# Altium footprint library BEE-DAL_EXP_pcb.PcbLib: 50 footprints (part 3 of 4)
Each footprint in its own frame and in the unit in brackets; x right, y up, seen from the top. Pads: shape width x height; smd on the part's side, far side on the other; paste and mask are expansions set on the pad; w line width, h text height; cw(c..) or ccw(c..) is an arc to the next point about the centre after c.
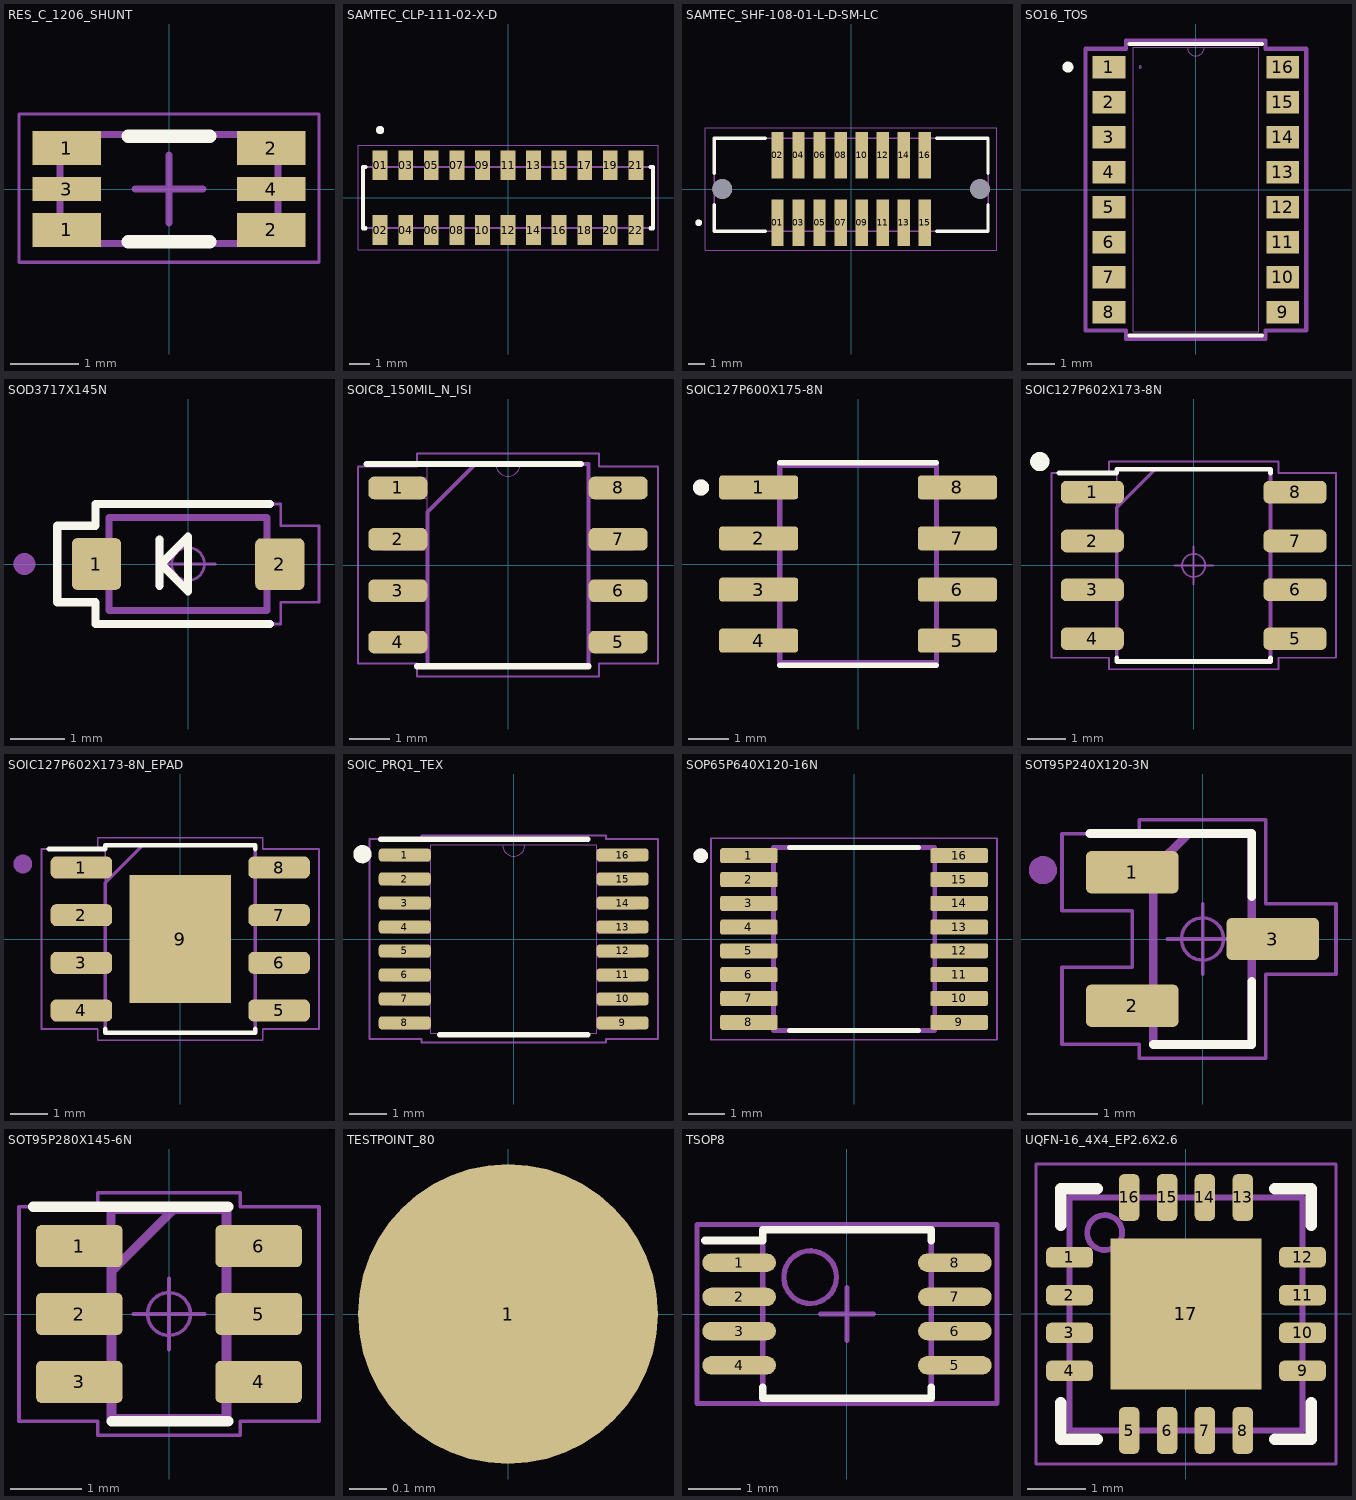
[diagram p2: the footprints below, top view; thin cyan lines are the x and y axes]

## RES_C_1206_SHUNT [mm]
pads (6):
  rect 1x0.5 smd mask+0.1: 1(-1.5,-0.6) 1(-1.5,0.6) 2(1.5,-0.6) 2(1.5,0.6)
  rect 1x0.35 smd mask+0.1: 3(-1.5,0) 4(1.5,0)
Top Overlay:
  lines w0.2: -0.6,-0.775 0.6,-0.775 ; -0.6,0.775 0.6,0.775
Top Assembly:
  lines w0.1: -1.6,-0.8 1.6,-0.8 1.6,0.8 -1.6,0.8 -1.6,-0.8
  text ".Designator" at -0.975,-0.375 h0.75
Top Courtyard:
  lines w0.05: -2.2,-1.075 -2.2,1.1 2.2,1.1 2.2,-1.075 -2.2,-1.075
  lines w0.1: -0.5,0 0.5,0 ; 0,-0.5 0,0.5
Top 3D Body:
  lines w0.1: -1.6,-0.8 -1.6,0.8 1.6,0.8 1.6,-0.8 -1.6,-0.8
3D body "RES_1206.step": height 1, standoff 0, extent -1.6,-0.8 1.6,0.8

## SAMTEC_CLP-111-02-X-D [mil]
pads (22):
  rect 29x58 smd: 01(-250,63.5) 02(-250,-63.5) 03(-200,63.5) 04(-200,-63.5) 05(-150,63.5) 06(-150,-63.5) 07(-100,63.5) 08(-100,-63.5) 09(-50,63.5) 10(-50,-63.5) 11(0,63.5) 12(0,-63.5) 13(50,63.5) 14(50,-63.5) 15(100,63.5) 16(100,-63.5) 17(150,63.5) 18(150,-63.5) 19(200,63.5) 20(200,-63.5) 21(250,63.5) 22(250,-63.5)
Top Overlay:
  circle w7.87: c-250,131.89 r3.94
  lines w7.87: -278.35,-60 -283.5,-60 -283.5,60 -278.35,60 ; 278.38,-60 283.5,-60 283.5,60 278.38,60
Mechanical 13:
  circle w7.87: c-250,131.89 r3.94
  lines w3.94: -283.5,-60 283.5,-60 283.5,60 -283.5,60 -283.5,-60
Mechanical 15:
  lines w1.97: -293.34,-102.36 293.34,-102.36 293.34,102.36 -293.34,102.36 -293.34,-102.36
3D body "CLP-111-02-G-D.stp": height 89, standoff -1, extent -283.5,-85 283.5,85

## SAMTEC_SHF-108-01-L-D-SM-LC [mm]
pads (18):
  rect 0.74x2.795 smd: 01(-4.445,-2.033) 02(-4.445,2.033) 03(-3.175,-2.033) 04(-3.175,2.033) 05(-1.905,-2.033) 06(-1.905,2.033) 07(-0.635,-2.033) 08(-0.635,2.033) 09(0.635,-2.033) 10(0.635,2.033) 11(1.905,-2.033) 12(1.905,2.033) 13(3.175,-2.033) 14(3.175,2.033) 15(4.445,-2.033) 16(4.445,2.033)
  round 1.19 hole 1.19 unplated: ""(-7.772,0) ""(7.772,0)
Top Overlay:
  circle w0.2: c-9.192,-2.033 r0.1
  lines w0.2: -8.255,-0.947 -8.255,-2.54 -5.165,-2.54 ; -8.255,0.947 -8.255,3.05 -5.165,3.05 ; 5.165,-2.54 8.255,-2.54 8.255,-0.947 ; 5.165,3.05 8.255,3.05 8.255,0.947
Mechanical 13:
  circle w0.2: c-9.192,-2.033 r0.1
  lines w0.1: -8.255,-2.54 -8.255,3.05 ; -8.255,-2.54 8.255,-2.54 ; -8.255,-2.54 -8.255,3.05 ; -8.255,3.05 8.255,3.05 ; -8.255,3.05 8.255,3.05 ; 8.255,-2.54 8.255,3.05 ; 8.255,-2.54 8.255,3.05
Mechanical 15:
  lines w0.05: -8.792,-3.68 8.792,-3.68 8.792,3.68 -8.792,3.68 -8.792,-3.68
3D body "SHF-108-01-L-D-SM-LC.stp": height 5.44, standoff -1.3, extent -8.255,-3.048 8.255,3.048

## SO16_TOS [mil]
pads (16):
  rect 47x32 smd paste+0 mask+0: 1(-124.02,175) 2(-124.02,125) 3(-124.02,75) 4(-124.02,25) 5(-124.02,-25) 6(-124.02,-75) 7(-124.02,-125) 8(-124.02,-175) 9(124.02,-175) 10(124.02,-125) 11(124.02,-75) 12(124.02,-25) 13(124.02,25) 14(124.02,75) 15(124.02,125) 16(124.02,175)
Top Overlay:
  circle w9.84: c-182.52,175 r3
  lines w6: -94.5,-208 94.5,-208 ; -94.5,208 94.5,208
Mechanical 13:
  circle w1: c-79.5,175 r1.5
  lines w1: -12,203 ccw(c0,203) 12,203 ; -89.5,-203 89.5,-203 89.5,203 -89.5,203 -89.5,-203
Mechanical 15:
  lines w6: -157.52,-201 -99.5,-201 -99.5,-213 99.5,-213 99.5,-201 157.52,-201 157.52,201 99.5,201 99.5,213 -99.5,213 -99.5,201 -157.52,201 -157.52,-201
3D body "TLP291-4_GB-TP,E_.stp": height 90.55, standoff 0, extent -137.8,-202.76 137.8,202.76

## SOD3717X145N [mm]
pads (2):
  rrect22% 0.9x0.95 smd: 1(-1.68,0) 2(1.681,-0.003)
Top Overlay:
  lines w0.15: -0.525,-0.4 -0.525,0.45 ; 1.5,-1.1 -1.7,-1.1 -1.7,-0.7 -2.4,-0.7 -2.4,0.7 -1.7,0.7 -1.7,1.1 1.5,1.1 ; -0.5,0 0,-0.5 0,0.375 0,0.5 -0.5,0
Top Assembly:
  lines w0.127: -1.45,-0.85 -1.45,0.85 1.45,0.85 1.45,-0.85 -1.45,-0.85
  lines w0.15: -0.525,-0.4 -0.525,0.45 ; -0.5,0 0,-0.5 0,0.375 0,0.5 -0.5,0
  text "'.Designator'" at -3.952,-0.622 h1.5
Top Courtyard:
  lines w0.05: -2.4,-0.7 -2.4,0.7 -1.7,0.7 -1.7,1.1 1.5,1.1 1.7,1.1 1.7,0.7 2.4,0.7 2.4,-0.7 1.7,-0.7 1.7,-1.1 -1.7,-1.1 -1.7,-0.7 -2.4,-0.7
Top Component Outline:
  region: -1.525,0.3 -1.925,0.3 -1.925,-0.3 -1.525,-0.3
  rectangle: 1.525,-0.3 1.925,0.3
  lines w0.05: -1.45,-0.85 -1.45,0.85 1.45,0.85 1.45,-0.85 -1.45,-0.85
Top Component Center:
  circle w0.05: c0,0 r0.3
  lines w0.05: -0.5,0 0.5,0 ; 0,-0.5 0,0.5
Mechanical 13:
  circle w0.2: c-3,0 r0.1
3D body "step_temp.STEP": height 1.5, standoff -0.03, extent -1.825,-0.775 1.825,0.775

## SOIC8_150MIL_N_ISI [mil]
pads (8):
  rrect50% 57.5x22 smd paste+0: 1(-107.25,75) 2(-107.25,25) 3(-107.25,-25) 4(-107.25,-75) 5(107.25,-75) 6(107.25,-25) 7(107.25,25) 8(107.25,75)
Top Overlay:
  lines w6: -137.8,98.43 70.87,98.43 ; -88.5,-98.5 78.5,-98.5
Top Assembly:
  lines w3.94: -78.5,-98.5 -78.5,51.42 -31.42,98.5 78.5,98.5 78.5,-98.5 -78.5,-98.5
Top Courtyard:
  lines w1.97: -146,-96 -146,96 -88.5,96 -88.5,108.5 88.5,108.5 88.5,96 146,96 146,-96 88.5,-96 88.5,-108.5 -88.5,-108.5 -88.5,-96 -146,-96
Top Component Outline:
  lines w0: -12,98.5 ccw(c0,98.5) 12,98.5
  lines w1: -122,-85 -78.5,-85 -78.5,-65 -122,-65 -122,-85 ; -122,-35 -78.5,-35 -78.5,-15 -122,-15 -122,-35 ; -122,15 -78.5,15 -78.5,35 -122,35 -122,15 ; -122,65 -78.5,65 -78.5,85 -122,85 -122,65 ; -78.5,-98.5 78.5,-98.5 78.5,98.5 -78.5,98.5 -78.5,-98.5 ; 78.5,-85 122,-85 122,-65 78.5,-65 78.5,-85 ; 78.5,-35 122,-35 122,-15 78.5,-15 78.5,-35 ; 78.5,15 122,15 122,35 78.5,35 78.5,15 ; 78.5,65 122,65 122,85 78.5,85 78.5,65
3D body "SOIC8_150MIL_N_ISI.step": height 69.09, standoff 0, extent -122.01,-98.5 122.01,98.5

## SOIC127P600X175-8N [mm]
pads (8):
  rrect25% 1.97x0.59 smd paste+0 mask+0.102: 1(-2.475,1.905) 2(-2.475,0.635) 3(-2.475,-0.635) 4(-2.475,-1.905) 5(2.475,-1.905) 6(2.475,-0.635) 7(2.475,0.635) 8(2.475,1.905)
Top Overlay:
  circle w0.2: c-3.91,1.905 r0.1
  lines w0.127: -1.95,-2.52 1.95,-2.52 ; -1.95,2.52 1.95,2.52
Mechanical 13:
  circle w0.2: c-3.91,1.905 r0.1
  lines w0.127: -1.95,-2.45 -1.95,2.45 1.95,2.45 1.95,-2.45 -1.95,-2.45
3D body "SN65HVD230DR.stp": height 1.63, standoff 0, extent -3.011,-2.451 3.011,2.451

## SOIC127P602X173-8N [mm]
pads (8):
  rrect50% 1.64x0.59 smd: 1(-2.635,1.905) 2(-2.635,0.635) 3(-2.635,-0.635) 4(-2.635,-1.905) 5(2.635,-1.905) 6(2.635,-0.635) 7(2.635,0.635) 8(2.635,1.905)
Top Overlay:
  circle w0.3: c-4,2.7 r0.1
  lines w0.125: -3.5,2.4 -2,2.4 -2,2.5 2,2.5 2,2.4 ; -2,-2.4 -2,-2.5 2,-2.5 2,-2.4
Top Assembly:
  lines w0.1: -2,-2.5 2,-2.5 2,2.5 -1,2.5 -2,1.5 -2,-2.5
  text "'.Designator'" at -3.952,-0.622 h1.5
Top Courtyard:
  lines w0.05: -3.7,-2.4 -3.7,2.4 -2.2,2.4 -2.2,2.7 2.2,2.7 2.2,2.4 3.7,2.4 3.7,-2.4 2.2,-2.4 2.2,-2.7 -2.2,-2.7 -2.2,-2.4 -3.7,-2.4
Top Component Outline:
  region: 3.123,1.645 3.123,2.165 2.234,2.165 2.234,1.645
  region: 2.211,0.892 2.211,0.372 3.1,0.372 3.1,0.892
  region: 3.123,-0.895 3.123,-0.375 2.234,-0.375 2.234,-0.895
  region: 2.211,-1.645 2.211,-2.165 3.1,-2.165 3.1,-1.645
  region: -2.211,-2.165 -2.211,-1.645 -3.1,-1.645 -3.1,-2.165
  region: -2.211,1.645 -2.211,2.165 -3.1,2.165 -3.1,1.645
  region: -2.211,0.375 -2.211,0.895 -3.1,0.895 -3.1,0.375
  region: -2.211,-0.895 -2.211,-0.375 -3.1,-0.375 -3.1,-0.895
  lines w0.05: -2,-2.5 -2,2.5 2,2.5 2,-2.5 -2,-2.5
Top Component Center:
  circle w0.05: c0,0 r0.3
  lines w0.05: -0.5,0 0.5,0 ; 0,-0.5 0,0.5
3D body "MB85RS2MTAPNF-G-BDERE1.STEP": height 1.73, standoff 0, extent -3.01,-2.565 3.01,2.565

## SOIC127P602X173-8N_EPAD [mm]
pads (9):
  rrect50% 1.64x0.59 smd: 1(-2.635,1.905) 2(-2.635,0.635) 3(-2.635,-0.635) 4(-2.635,-1.905) 5(2.635,-1.905) 6(2.635,-0.635) 7(2.635,0.635) 8(2.635,1.905)
  rect 2.718x3.404 smd paste-0.159: 9(0,0)
Top Overlay:
  lines w0.125: -3.5,2.4 -2,2.4 -2,2.5 2,2.5 2,2.4 ; -2,-2.4 -2,-2.5 2,-2.5 2,-2.4
Top Assembly:
  lines w0.1: -2,-2.5 2,-2.5 2,2.5 -1,2.5 -2,1.5 -2,-2.5
  text "'.Designator'" at -3.952,-0.622 h1.5
Top Courtyard:
  lines w0.05: -3.7,-2.4 -3.7,2.4 -2.2,2.4 -2.2,2.7 2.2,2.7 2.2,2.4 3.7,2.4 3.7,-2.4 2.2,-2.4 2.2,-2.7 -2.2,-2.7 -2.2,-2.4 -3.7,-2.4
Top Component Outline:
  region: 3.123,1.645 3.123,2.165 2.234,2.165 2.234,1.645
  region: 2.211,0.891 2.211,0.371 3.1,0.371 3.1,0.891
  region: 3.123,-0.895 3.123,-0.375 2.234,-0.375 2.234,-0.895
  region: 2.211,-1.645 2.211,-2.165 3.1,-2.165 3.1,-1.645
  region: -2.211,-2.165 -2.211,-1.645 -3.1,-1.645 -3.1,-2.165
  region: -2.211,1.645 -2.211,2.165 -3.1,2.165 -3.1,1.645
  region: -2.211,0.375 -2.211,0.895 -3.1,0.895 -3.1,0.375
  region: -2.211,-0.895 -2.211,-0.375 -3.1,-0.375 -3.1,-0.895
  lines w0.05: -2,-2.5 -2,2.5 2,2.5 2,-2.5 -2,-2.5
Top Component Center:
  circle w0.05: c0,0 r0.3
  lines w0.05: -0.5,0 0.5,0 ; 0,-0.5 0,0.5
Mechanical 13:
  circle w0.3: c-4.2,2 r0.1
3D body "MB85RS2MTAPNF-G-BDERE1.STEP": height 1.73, standoff 0, extent -3.01,-2.565 3.01,2.565

## SOIC_PRQ1_TEX [mil]
pads (16):
  rrect50% 55.5x14 smd mask+1.97: 1(-116.25,89.56) 2(-116.25,63.98) 3(-116.25,38.38) 4(-116.25,12.79) 5(-116.25,-12.79) 6(-116.25,-38.38) 7(-116.25,-63.98) 8(-116.25,-89.56) 9(116.25,-89.56) 10(116.25,-63.98) 11(116.25,-38.38) 12(116.25,-12.79) 13(116.25,12.79) 14(116.25,38.38) 15(116.25,63.98) 16(116.25,89.56)
Top Overlay:
  circle w10: c-161.42,90.55 r4.72
  lines w6: -141.73,106.3 79.1,106.3 ; -78.74,-102.36 79.1,-102.36
Top Assembly:
  lines w0.98: -12,100.5 ccw(c0,100.5) 12,100.5
  lines w1: -130,-95.56 -88.5,-95.56 -88.5,-83.56 -130,-83.56 -130,-95.56 ; -130,-69.97 -130,-57.98 -88.5,-57.98 -88.5,-69.97 -130,-69.97 ; -130,-44.38 -88.5,-44.38 -88.5,-32.38 -130,-32.38 -130,-44.38 ; -130,-18.8 -88.5,-18.8 -88.5,-6.79 -130,-6.79 -130,-18.8 ; -130,6.79 -130,18.8 -88.5,18.8 -88.5,6.79 -130,6.79 ; -130,32.38 -88.5,32.38 -88.5,44.38 -130,44.38 -130,32.38 ; -130,57.98 -88.5,57.98 -88.5,69.97 -130,69.97 -130,57.98 ; -130,83.56 -88.5,83.56 -88.5,95.56 -130,95.56 -130,83.56 ; -88.5,-100.5 -88.5,100.5 88.5,100.5 88.5,-100.5 -88.5,-100.5 ; 88.5,-95.56 88.5,-83.56 130,-83.56 130,-95.56 88.5,-95.56 ; 88.5,-69.97 130,-69.97 130,-57.98 88.5,-57.98 88.5,-69.97 ; 88.5,-44.38 130,-44.38 130,-32.38 88.5,-32.38 88.5,-44.38 ; 88.5,-18.8 88.5,-6.79 130,-6.79 130,-18.8 88.5,-18.8 ; 88.5,6.79 130,6.79 130,18.8 88.5,18.8 88.5,6.79 ; 88.5,32.38 130,32.38 130,44.38 88.5,44.38 88.5,32.38 ; 88.5,57.98 88.5,69.97 130,69.97 130,57.98 88.5,57.98 ; 88.5,83.56 130,83.56 130,95.56 88.5,95.56 88.5,83.56
Top Courtyard:
  lines w1.97: -154,-106.56 -154,106.56 -98.5,106.56 -98.5,110.5 98.5,110.5 98.5,106.56 154,106.56 154,-106.56 98.5,-106.56 98.5,-110.5 -98.5,-110.5 -98.5,-106.56 -154,-106.56
3D body "SOIC_PRQ1_TEX.step": height 47.09, standoff 0, extent -130,-100.51 130,100.51

## SOP65P640X120-16N [mm]
pads (16):
  rrect25% 1.57x0.41 smd mask+0.06: 1(-2.87,2.275) 2(-2.87,1.625) 3(-2.87,0.975) 4(-2.87,0.325) 5(-2.87,-0.325) 6(-2.87,-0.975) 7(-2.87,-1.625) 8(-2.87,-2.275) 9(2.87,-2.275) 10(2.87,-1.625) 11(2.87,-0.975) 12(2.87,-0.325) 13(2.87,0.325) 14(2.87,0.975) 15(2.87,1.625) 16(2.87,2.275)
Top Overlay:
  circle w0.2: c-4.19,2.275 r0.1
  lines w0.127: -1.765,-2.5 1.765,-2.5 ; -1.765,2.5 1.765,2.5
Mechanical 13:
  circle w0.2: c-4.19,2.275 r0.1
  lines w0.127: -2.2,-2.5 -2.2,2.5 2.2,2.5 2.2,-2.5 -2.2,-2.5
Mechanical 15:
  lines w0.05: -3.905,-2.75 -3.905,2.75 3.905,2.75 3.905,-2.75 -3.905,-2.75
3D body "step_temp.STEP": height 1.2, standoff 0, extent -3.2,-2.5 3.2,2.5

## SOT95P240X120-3N [mm]
pads (3):
  rrect25% 1.32x0.6 smd: 1(-1,0.95) 2(-1,-0.95) 3(1,0)
Top Overlay:
  lines w0.125: -1.6,1.5 0.6,1.5 0.7,1.5 0.7,0.6 ; -0.7,-1.5 0.7,-1.5 0.7,-0.6
Top Assembly:
  lines w0.125: -0.7,-1.5 0.7,-1.5 0.7,1.5 -0.2,1.5 -0.7,1 -0.7,-1.5
  text "'.Designator'" at -3.952,-0.622 h1.5
Top Courtyard:
  lines w0.05: -2,-1.5 -2,-0.4 -1,-0.4 -1,0.4 -2,0.4 -2,1.5 -0.9,1.5 -0.9,1.7 0.9,1.7 0.9,0.5 1.9,0.5 1.9,-0.5 0.9,-0.5 0.9,-1.7 -0.9,-1.7 -0.9,-1.5 -2,-1.5
Top Component Center:
  circle w0.05: c0,0 r0.3
  lines w0.05: -0.5,0 0.5,0 ; 0,-0.5 0,0.5
Mechanical 13:
  circle w0.2: c-2.27,0.98 r0.1
3D body "step_temp.STEP": height 1.2, standoff -0.1, extent -1.3,-1.52 1.3,1.52

## SOT95P280X145-6N [mm]
pads (6):
  rrect25% 1.21x0.59 smd: 1(-1.255,0.95) 2(-1.255,0) 3(-1.255,-0.95) 4(1.255,-0.95) 5(1.255,0) 6(1.255,0.95)
Top Overlay:
  lines w0.15: -1.9,1.5 0.825,1.5 ; -0.8,-1.5 0.825,-1.5
Top Assembly:
  lines w0.125: -0.8,-1.5 0.8,-1.5 0.8,1.5 0.1,1.5 -0.8,0.6 -0.8,-1.5
  text "'.Designator'" at -3.952,-0.622 h1.5
Top Courtyard:
  lines w0.05: -2.1,-1.5 -1,-1.5 -1,-1.7 1,-1.7 1,-1.5 2.1,-1.5 2.1,1.5 1,1.5 1,1.7 -1,1.7 -1,1.5 -2.1,1.5 -2.1,1.3 -2.1,-1.5
Top Component Center:
  circle w0.05: c0,0 r0.3
  lines w0.05: -0.5,0 0.5,0 ; 0,-0.5 0,0.5
Mechanical 13:
  lines w0.127: -0.813,-1.462 -0.813,1.462 0.813,1.462 0.813,-1.462 -0.813,-1.462
3D body "step_temp.STEP": height 1.4, standoff -0.05, extent -1.4,-1.462 1.4,1.462

## TESTPOINT_80 [mm]
pads (1):
  round 0.8 smd paste+0 mask+0: 1(0,0)

## TSOP8 [mm]
pads (8):
  oval 1.4x0.35 smd mask+0.051: 1(-2.05,0.975) 2(-2.05,0.325) 3(-2.05,-0.325) 4(-2.05,-0.975) 5(2.05,-0.975) 6(2.05,-0.325) 7(2.05,0.325) 8(2.05,0.975)
Top Overlay:
  lines w0.15: -2.7,1.4 -1.6,1.4 -1.6,1.6 1.6,1.6 1.6,1.4 ; -1.6,-1.4 -1.6,-1.6 1.6,-1.6 1.6,-1.4
Top Courtyard:
  lines w0.1: -0.5,0 0.5,0 ; 0,-0.5 0,0.5 ; -2.85,-1.7 2.85,-1.7 2.85,1.7 -2.85,1.7 -2.85,-1.7
Top 3D Body:
  circle w0.1: c-0.7,0.7 r0.5
  lines w0.1: -1.6,-1.6 1.6,-1.6 1.6,1.6 -1.6,1.6 -1.6,-1.6
3D body "TSOP65P470X150-8N.step": height 1.5, standoff 0, extent -2.35,-1.5 2.35,1.5

## UQFN-16_4X4_EP2.6X2.6 [mm]
pads (17):
  rrect50% 0.8x0.35 smd paste+0 mask+0.075: 1(-2,0.975) 2(-2,0.325) 3(-2,-0.325) 4(-2,-0.975) 9(2,-0.975) 10(2,-0.325) 11(2,0.325) 12(2,0.975)
  rrect50% 0.35x0.8 smd paste+0 mask+0.057: 5(-0.975,-2) 6(-0.325,-2) 7(0.325,-2) 8(0.975,-2) 13(0.975,2) 14(0.325,2) 15(-0.325,2) 16(-0.975,2)
  rect 2.6x2.6 smd paste-0.25 mask+0.075: 17(0,0)
Top Overlay:
  lines w0.2: -2.15,-1.525 -2.15,-2.15 -1.525,-2.15 ; -2.15,1.525 -2.15,2.15 -1.525,2.15 ; 1.525,-2.15 2.15,-2.15 2.15,-1.525 ; 1.525,2.15 2.15,2.15 2.15,1.525
  text "." at -2.6,2.475 h1
Top Assembly:
  circle w0.1: c-1.397,1.397 r0.3
  lines w0.1: -2,-2 2,-2 2,2 -2,2 -2,-2
  text "'.Designator'" at 0.825,0.45 h1
Top Courtyard:
  lines w0.05: -2.575,-2.575 2.575,-2.575 2.575,2.575 -2.575,2.575 -2.575,-2.575
  lines w0.1: -0.5,0 0.5,0 ; 0,-0.5 0,0.5
3D body "QFN127P600-8N.step": height 0.5, standoff 0, extent -2.001,-2.001 2.001,2.001